# Altium footprint library 33nF Kapasitör.PcbLib: 1 footprints
Each footprint in its own frame and in the unit in brackets; x right, y up, seen from the top. Pads: shape width x height; smd on the part's side, far side on the other; paste and mask are expansions set on the pad; w line width, h text height; cw(c..) or ccw(c..) is an arc to the next point about the centre after c.
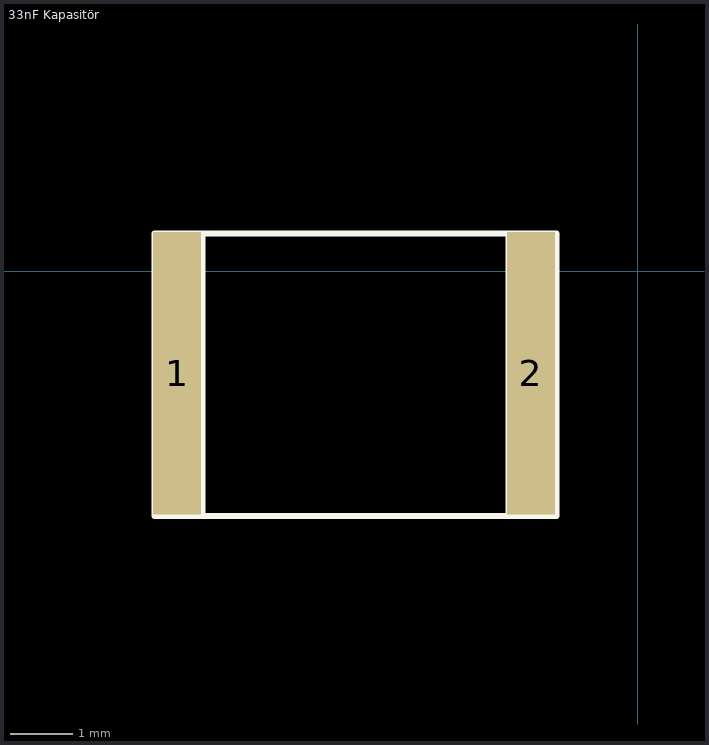
[diagram p0: the footprint, top view; thin cyan lines are the x and y axes]

## 33nF Kapasitör [mil]
pads (2):
  rect 29.92x177.17 smd mask+0.39: 1(-289,-64) 2(-67,-64)
Top Overlay:
  lines w3.94: -273.23,-153.54 -273.23,23.62 ; -81.1,-153.54 -81.1,23.62 ; -303.15,-153.54 -51.18,-153.54 -51.18,23.62 -303.15,23.62 -303.15,-153.54 ; -275.59,23.62 -275.59,23.62 ; -78.74,23.62 -78.74,23.62